# Altium footprint library EIA.SMD.PcbLib: 40 footprints (part 1 of 3)
Each footprint in its own frame and in the unit in brackets; x right, y up, seen from the top. Pads: shape width x height; smd on the part's side, far side on the other; paste and mask are expansions set on the pad; w line width, h text height; cw(c..) or ccw(c..) is an arc to the next point about the centre after c.
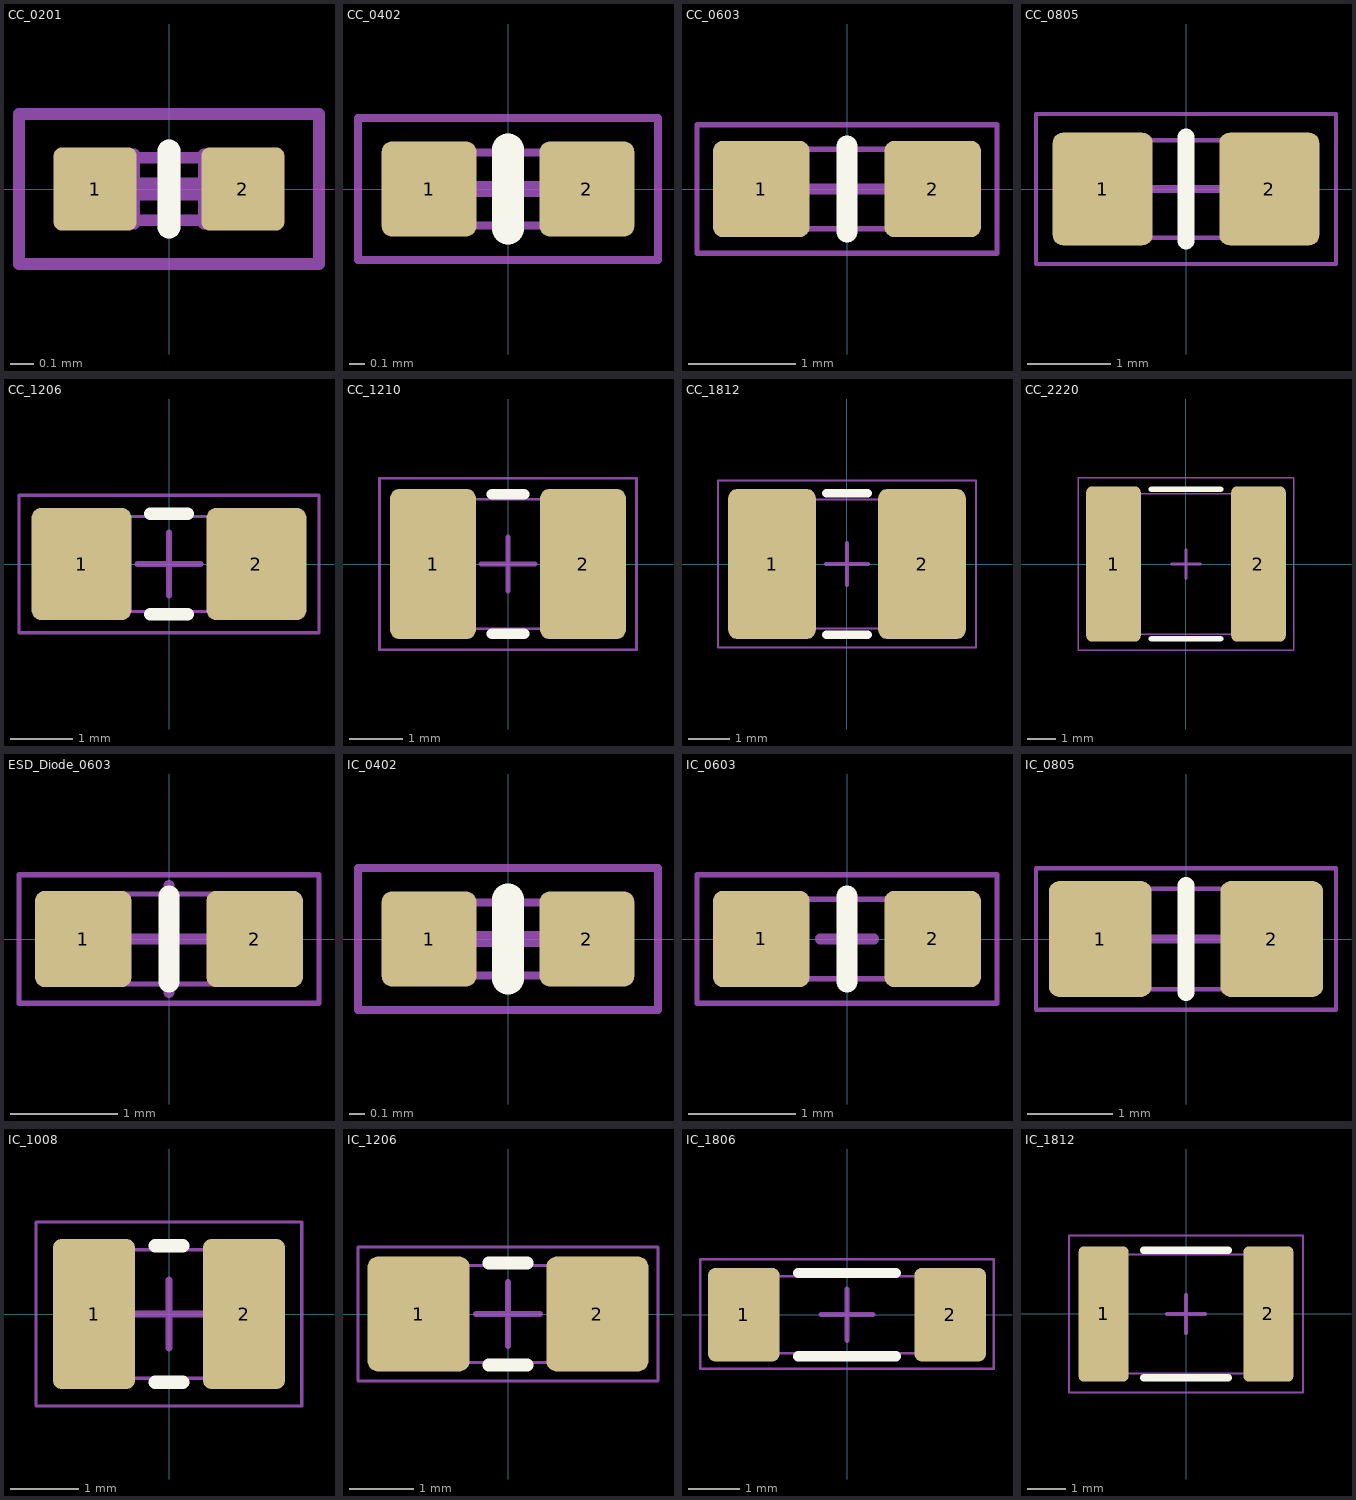
[diagram p0: the footprints below, top view; thin cyan lines are the x and y axes]

## CC_0201 [mm] "Chip Capacitor, 2-Leads, Body 0.60x0.30mm, IPC Medium Density"
height 0.33
pads (2):
  rrect20% 0.36x0.36 smd: 1(-0.32,0) 2(0.32,0)
Top Overlay:
  lines w0.1: 0,-0.165 0,0.165
Mechanical 1:
  lines w0.05: -0.15,-0.135 0.15,-0.135 ; -0.15,0.135 0.15,0.135 ; -0.3,-0.15 -0.3,0.15 -0.15,0.15 -0.15,-0.15 -0.3,-0.15 ; 0.15,-0.15 0.15,0.15 0.3,0.15 0.3,-0.15 0.15,-0.15
Mechanical 15:
  lines w0.05: -0.65,-0.325 -0.65,0.325 0.65,0.325 0.65,-0.325 -0.65,-0.325
  lines w0.1: -0.165,0 0.165,0 ; 0,-0.165 0,0.165
3D body "C_0201_0603Metric.step": height 0.3, standoff 0, extent -0.3,-0.15 0.3,0.15

## CC_0402 [mm] "Chip Capacitor, 2-Leads, Body 1.0x0.5mm, IPC Medium Density"
height 0.5
pads (2):
  rrect20% 0.6x0.6 smd: 1(-0.5,0) 2(0.5,0)
Top Overlay:
  lines w0.2: 0,-0.25 0,0.25
Mechanical 1:
  lines w0.05: -0.3,-0.23 0.3,-0.23 ; -0.3,0.23 0.3,0.23 ; -0.5,-0.25 -0.3,-0.25 -0.3,0.25 -0.5,0.25 -0.5,-0.25 ; 0.3,-0.25 0.5,-0.25 0.5,0.25 0.3,0.25 0.3,-0.25
Mechanical 15:
  lines w0.05: -0.95,-0.45 0.95,-0.45 0.95,0.45 -0.95,0.45 -0.95,-0.45
  lines w0.1: -0.3,0 0.3,0 ; 0,-0.3 0,0.3
3D body "C_0402_1005Metric.step": height 0.5, standoff 0, extent -0.5,-0.25 0.5,0.25

## CC_0603 [mm] "Chip Capacitor, 2-Leads, Body 1.6x0.8mm, IPC Medium Density"
pads (2):
  rrect20% 0.9x0.9 smd: 1(-0.8,0) 2(0.8,0)
Top Overlay:
  lines w0.2: 0,-0.4 0,0.4
Mechanical 1:
  lines w0.05: -0.5,-0.37 0.5,-0.37 ; -0.5,0.37 0.5,0.37 ; -0.8,-0.4 -0.8,0.4 -0.5,0.4 -0.5,-0.4 -0.8,-0.4 ; 0.5,-0.4 0.5,0.4 0.8,0.4 0.8,-0.4 0.5,-0.4
Mechanical 15:
  lines w0.05: -1.4,-0.6 -1.4,0.6 1.4,0.6 1.4,-0.6 -1.4,-0.6
  lines w0.1: -0.45,0 0.45,0 ; 0,-0.45 0,0.45
3D body "C_0603_1608Metric.step": height 0.8, standoff 0, extent -0.8,-0.4 0.8,0.4

## CC_0805 [mm] "Chip Capacitor, 2-Leads, Body 2.0x1.25mm, IPC Medium Density"
height 0.6
pads (2):
  rrect20% 1.2x1.35 smd: 1(-1,0) 2(1,0)
Top Overlay:
  lines w0.2: 0,-0.625 0,0.625
Mechanical 1:
  lines w0.05: -0.6,-0.585 0.6,-0.585 ; -0.6,0.585 0.6,0.585 ; -1,-0.625 -0.6,-0.625 -0.6,0.625 -1,0.625 -1,-0.625 ; 0.6,-0.625 1,-0.625 1,0.625 0.6,0.625 0.6,-0.625
Mechanical 15:
  lines w0.05: -1.8,-0.9 -1.8,0.9 1.8,0.9 1.8,-0.9 -1.8,-0.9
  lines w0.1: -0.5,0 0.5,0 ; 0,-0.5 0,0.5
3D body "C_0805_2012Metric.step": height 1.25, standoff 0, extent -1,-0.625 1,0.625

## CC_1206 [mm] "Chip Capacitor, 2-Leads, Body 3.2x1.6mm, IPC Medium Density"
pads (2):
  rrect20% 1.6x1.8 smd: 1(-1.4,0) 2(1.4,0)
Top Overlay:
  lines w0.2: -0.3,-0.8 0.3,-0.8 ; -0.3,0.8 0.3,0.8
Mechanical 1:
  lines w0.05: -1.2,-0.76 1.2,-0.76 ; -1.2,0.76 1.2,0.76 ; -1.6,-0.8 -1.6,0.8 -1.2,0.8 -1.2,-0.8 -1.6,-0.8 ; 1.2,-0.8 1.2,0.8 1.6,0.8 1.6,-0.8 1.2,-0.8
Mechanical 15:
  lines w0.05: -2.4,-1.1 -2.4,1.1 2.4,1.1 2.4,-1.1 -2.4,-1.1
  lines w0.1: -0.5,0 0.5,0 ; 0,-0.5 0,0.5
3D body "C_1206_3216Metric.step": height 1.6, standoff 0, extent -1.6,-0.8 1.6,0.8

## CC_1210 [mm] "Chip Capacitor, 2-Leads, Body 3.2x2.6mm, IPC Medium Density"
pads (2):
  rrect20% 1.6x2.8 smd: 1(-1.4,0) 2(1.4,0)
Top Overlay:
  lines w0.2: -0.3,-1.3 0.3,-1.3 ; -0.3,1.3 0.3,1.3
Mechanical 1:
  lines w0.05: -1.2,-1.21 1.2,-1.21 ; -1.2,1.21 1.2,1.21 ; -1.6,-1.25 -1.6,1.25 -1.2,1.25 -1.2,-1.25 -1.6,-1.25 ; 1.2,-1.25 1.2,1.25 1.6,1.25 1.6,-1.25 1.2,-1.25
Mechanical 15:
  lines w0.05: -2.4,-1.6 2.4,-1.6 2.4,1.6 -2.4,1.6 -2.4,-1.6
  lines w0.1: -0.5,0 0.5,0 ; 0,-0.5 0,0.5
3D body "C_1210_3225Metric.step": height 2.5, standoff 0, extent -1.6,-1.25 1.6,1.25

## CC_1812 [mm] "Chip Capacitor, 2-Leads, Body 4.5x3.2mm, IPC Medium Density"
height 4
pads (2):
  rrect20% 2.1x3.6 smd: 1(-1.8,0) 2(1.8,0)
Top Overlay:
  lines w0.2: -0.5,-1.7 0.5,-1.7 ; -0.5,1.7 0.5,1.7
Mechanical 1:
  lines w0.05: -1.75,-1.55 1.75,-1.55 ; -1.75,1.55 1.75,1.55 ; -2.25,-1.6 -2.25,1.6 -1.75,1.6 -1.75,-1.6 -2.25,-1.6 ; 1.75,-1.6 1.75,1.6 2.25,1.6 2.25,-1.6 1.75,-1.6
Mechanical 15:
  lines w0.05: -3.1,-2 -3.1,2 3.1,2 3.1,-2 -3.1,-2
  lines w0.1: -0.5,0 0.5,0 ; 0,-0.5 0,0.5
3D body "C_1812_4532Metric.step": height 2.5, standoff 0, extent -2.25,-1.6 2.25,1.6

## CC_2220 [mm] "Chip Capacitor, 2-Leads, Body 5.70x5.00mm, IPC Medium Density"
height 3.3
pads (2):
  rrect20% 1.9x5.4 smd: 1(-2.525,0) 2(2.525,0)
Top Overlay:
  lines w0.2: -1.2,-2.6 1.2,-2.6 ; -1.2,2.6 1.2,2.6
Mechanical 1:
  lines w0.05: -2.3,-2.45 2.3,-2.45 ; -2.3,2.45 2.3,2.45 ; -2.8,-2.5 -2.3,-2.5 -2.3,2.5 -2.8,2.5 -2.8,-2.5 ; 2.3,-2.5 2.3,2.5 2.8,2.5 2.8,-2.5 2.3,-2.5
Mechanical 15:
  lines w0.05: -3.75,-3 3.75,-3 3.75,3 -3.75,3 -3.75,-3
  lines w0.1: -0.5,0 0.5,0 ; 0,-0.5 0,0.5
3D body "C_2220_5650Metric.step": height 2.9, standoff 0, extent -2.8,-2.5 2.8,2.5

## ESD_Diode_0603 [mm] "Chip Resistor, 2-Leads, Body 1.6x0.8mm, IPC Medium Density"
pads (2):
  rrect20% 0.9x0.9 smd: 1(-0.8,0) 2(0.8,0)
Top Overlay:
  lines w0.2: 0,-0.4 0,0.4
Mechanical 1:
  lines w0.05: -0.52,-0.42 -0.52,0.42 ; 0.52,-0.42 0.52,0.42 ; -0.83,-0.42 -0.83,-0.15 ccw(c-0.83,0) -0.83,0.15 -0.83,0.42 0.83,0.42 0.83,0.15 ccw(c0.83,0) 0.83,-0.15 0.83,-0.42 -0.83,-0.42
Mechanical 15:
  lines w0.05: -1.4,-0.6 -1.4,0.6 1.4,0.6 1.4,-0.6 -1.4,-0.6
  lines w0.1: -0.5,0 0.5,0 ; 0,-0.5 0,0.5
3D body "LittelFuse_PGB1010603.STEP": height 0.36, standoff 0, extent -0.83,-0.42 0.83,0.42

## IC_0402 [mm] "Chip Inductor, 2-Leads, Body 1.00x0.50mm, IPC Medium Density"
height 0.5
pads (2):
  rrect20% 0.6x0.6 smd: 1(-0.5,0) 2(0.5,0)
Top Overlay:
  lines w0.2: 0,-0.25 0,0.25
Mechanical 1:
  lines w0.05: -0.3,-0.23 0.3,-0.23 ; -0.3,0.23 0.3,0.23 ; -0.5,-0.25 -0.5,0.25 -0.3,0.25 -0.3,-0.25 -0.5,-0.25 ; 0.3,-0.25 0.3,0.25 0.5,0.25 0.5,-0.25 0.3,-0.25
Mechanical 15:
  lines w0.05: -0.95,-0.45 -0.95,0.45 0.95,0.45 0.95,-0.45 -0.95,-0.45
  lines w0.1: -0.25,0 0.25,0 ; 0,-0.25 0,0.25
3D body "L_0402_1005Metric.step": height 0.5, standoff 0, extent -0.5,-0.25 0.5,0.25

## IC_0603 [mm] "Chip Inductor, 2-Leads, Body 1.60x0.80mm, IPC Medium Density"
pads (2):
  rrect20% 0.9x0.9 smd: 1(-0.8,0) 2(0.8,0)
Top Overlay:
  lines w0.2: 0,-0.4 0,0.4
Mechanical 1:
  lines w0.05: -0.5,-0.37 0.5,-0.37 ; -0.5,0.37 0.5,0.37 ; -0.8,-0.4 -0.5,-0.4 -0.5,0.4 -0.8,0.4 -0.8,-0.4 ; 0.5,-0.4 0.8,-0.4 0.8,0.4 0.5,0.4 0.5,-0.4
Mechanical 15:
  lines w0.05: -1.4,-0.6 -1.4,0.6 1.4,0.6 1.4,-0.6 -1.4,-0.6
  lines w0.1: -0.25,0 0.25,0 ; 0,-0.25 0,0.25
3D body "L_0603_1608Metric.step": height 0.8, standoff 0, extent -0.8,-0.4 0.8,0.4

## IC_0805 [mm] "Chip Inductor, 2-Leads, Body 2.00x1.25mm, IPC Medium Density"
height 0.6
pads (2):
  rrect20% 1.2x1.35 smd: 1(-1,0) 2(1,0)
Top Overlay:
  lines w0.2: 0,-0.625 0,0.625
Mechanical 1:
  lines w0.05: -0.6,-0.585 0.6,-0.585 ; -0.6,0.585 0.6,0.585 ; -1,-0.625 -1,0.625 -0.6,0.625 -0.6,-0.625 -1,-0.625 ; 0.6,-0.625 0.6,0.625 1,0.625 1,-0.625 0.6,-0.625
Mechanical 15:
  lines w0.05: -1.75,-0.825 -1.75,0.825 1.75,0.825 1.75,-0.825 -1.75,-0.825
  lines w0.1: -0.5,0 0.5,0 ; 0,-0.5 0,0.5
3D body "L_0805_2012Metric.step": height 1.25, standoff 0, extent -1,-0.625 1,0.625

## IC_1008 [mm] "Chip Inductor, 2-Leads, Body 2.50x2.00mm, IPC Medium Density"
height 1
pads (2):
  rrect20% 1.2x2.2 smd: 1(-1.1,0) 2(1.1,0)
Top Overlay:
  lines w0.2: -0.2,-1 0.2,-1 ; -0.2,1 0.2,1
Mechanical 1:
  lines w0.05: -0.65,-0.94 0.65,-0.94 ; -0.65,0.94 0.65,0.94 ; -1.25,-1 -0.65,-1 -0.65,1 -1.25,1 -1.25,-1 ; 0.65,-1 1.25,-1 1.25,1 0.65,1 0.65,-1
Mechanical 15:
  lines w0.05: -1.95,-1.35 1.95,-1.35 1.95,1.35 -1.95,1.35 -1.95,-1.35
  lines w0.1: -0.5,0 0.5,0 ; 0,-0.5 0,0.5
3D body "L_1008_2520Metric.step": height 1.2, standoff 0, extent -1.25,-1 1.25,1

## IC_1206 [mm] "Chip Inductor, 2-Leads, Body 3.20x1.60mm, IPC Medium Density"
pads (2):
  rrect20% 1.6x1.8 smd: 1(-1.4,0) 2(1.4,0)
Top Overlay:
  lines w0.2: -0.3,-0.8 0.3,-0.8 ; -0.3,0.8 0.3,0.8
Mechanical 1:
  lines w0.05: -1.2,-0.76 1.2,-0.76 ; -1.2,0.76 1.2,0.76 ; -1.6,-0.8 -1.6,0.8 -1.2,0.8 -1.2,-0.8 -1.6,-0.8 ; 1.2,-0.8 1.2,0.8 1.6,0.8 1.6,-0.8 1.2,-0.8
Mechanical 15:
  lines w0.05: -2.35,-1.05 2.35,-1.05 2.35,1.05 -2.35,1.05 -2.35,-1.05
  lines w0.1: -0.5,0 0.5,0 ; 0,-0.5 0,0.5
3D body "L_1206_3216Metric.step": height 1.6, standoff 0, extent -1.6,-0.8 1.6,0.8

## IC_1806 [mm] "Chip Inductor, 2-Leads, Body 4.50x1.60mm, IPC Medium Density"
height 1.8
pads (2):
  rrect20% 1.39x1.82 smd: 1(-2.005,0) 2(2.005,0)
Top Overlay:
  lines w0.2: -0.95,-0.81 0.95,-0.81 ; -0.95,0.81 0.95,0.81
Mechanical 1:
  lines w0.05: -1.75,-0.75 1.75,-0.75 ; -1.75,0.75 1.75,0.75 ; -2.25,-0.8 -2.25,0.8 -1.75,0.8 -1.75,-0.8 -2.25,-0.8 ; 1.75,-0.8 2.25,-0.8 2.25,0.8 1.75,0.8 1.75,-0.8
Mechanical 15:
  lines w0.05: -2.85,-1.05 -2.85,1.075 2.85,1.075 2.85,-1.05 -2.85,-1.05
  lines w0.1: -0.5,0 0.5,0 ; 0,-0.5 0,0.5
3D body "L_1806_4516Metric.step": height 1.6, standoff 0, extent -2.25,-0.8 2.25,0.8

## IC_1812 [mm] "Chip Inductor, 2-Leads, Body 4.50x3.20mm, IPC Medium Density"
height 2
pads (2):
  rrect20% 1.3x3.52 smd: 1(-2.15,0) 2(2.15,0)
Top Overlay:
  lines w0.2: -1.1,-1.66 1.1,-1.66 ; -1.1,1.66 1.1,1.66
Mechanical 1:
  lines w0.05: -1.75,-1.55 1.75,-1.55 ; -1.75,1.55 1.75,1.55 ; -2.25,-1.6 -2.25,1.6 -1.75,1.6 -1.75,-1.6 -2.25,-1.6 ; 1.75,-1.6 2.25,-1.6 2.25,1.6 1.75,1.6 1.75,-1.6
Mechanical 15:
  lines w0.05: -3.05,-2.05 -3.05,2.05 3.05,2.05 3.05,-2.05 -3.05,-2.05
  lines w0.1: -0.5,0 0.5,0 ; 0,-0.5 0,0.5
3D body "L_1812_4532Metric.step": height 2.5, standoff 0, extent -2.25,-1.6 2.25,1.6